# Altium footprint library Molex Microfit 3.0 4x2.PcbLib: 1 footprints
Each footprint in its own frame and in the unit in brackets; x right, y up, seen from the top. Pads: shape width x height; smd on the part's side, far side on the other; paste and mask are expansions set on the pad; w line width, h text height; cw(c..) or ccw(c..) is an arc to the next point about the centre after c.
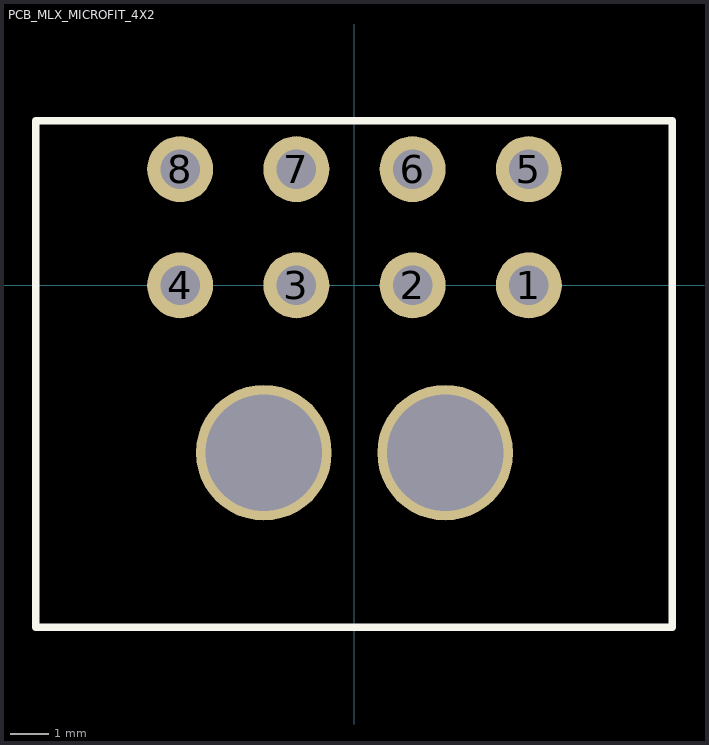
[diagram p0: the footprint, top view; thin cyan lines are the x and y axes]

## PCB_MLX_MICROFIT_4X2 [mm] "Molex MicroFit 4x2 Connector"
height 7.37
pads (10):
  round 1.7 hole 1.02: 1(4.5,0) 2(1.5,0) 3(-1.5,0) 4(-4.5,0) 5(4.5,3) 6(1.5,3) 7(-1.5,3) 8(-4.5,3)
  round 3.5 hole 3: ""(-2.34,-4.32) ""(2.34,-4.32)
Top Overlay:
  lines w0.2: -8.225,-8.825 -8.225,4.25 8.2,4.25 8.2,-8.825 -8.225,-8.825
3D body "430450800.stp": height 8.83, standoff -3.12, extent -8.05,-8.875 8.1,3.365